# EAGLE library part MALE_3X3 (library be_con_jump)
drawn: Mario Blunk / Blunk electronic
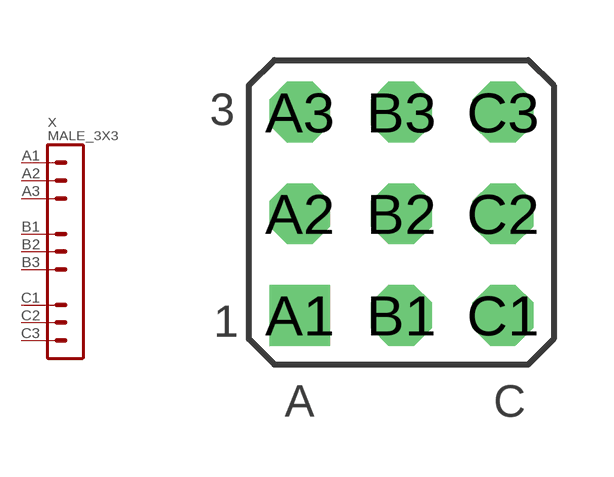
[diagram p15: symbol with the pads of T_MALE_3X3_VERTICAL; footprint T_MALE_3X3_VERTICAL]

Designator prefix X

## MALE_3X3 (BOM: YES; COMMISSIONED: 2014-02-26; PART_CODE_BEL: X_PAC_T_MALE_3X3_VERTICAL)  [T_MALE_3X3_VERTICAL]
A1  A1  pas
A2  A2  pas
A3  A3  pas
B1  B1  pas
B2  B2  pas
B3  B3  pas
C1  C1  pas
C2  C2  pas
C3  C3  pas

## Footprint T_MALE_3X3_VERTICAL (pad centres in mm)
male header package 3x3 drawn: Mario Blunk / Blunk electronic date: 2014-02-26
drill 1.016 square: A1 -2.54,-2.56
drill 1.016 octagon: A2 -2.54,-0.02; A3 -2.54,2.52; B1 0,-2.56; B2 0,-0.02; B3 0,2.52; C1 2.54,-2.56; C2 2.54,-0.02; C3 2.54,2.52